# EAGLE library part IP5306 (library kxnStandard_IC_Function)
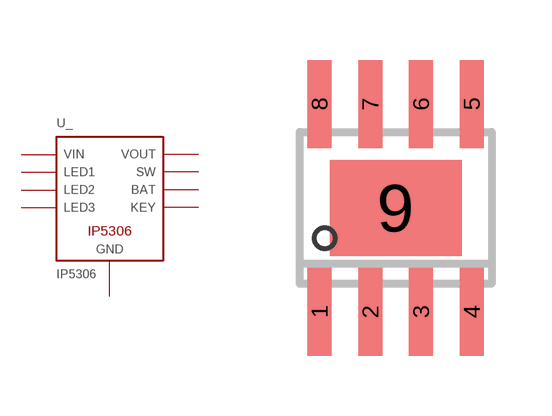
[diagram p13: symbol with the pads of ESOP8; footprint ESOP8]

Designator prefix U_

## IP5306_1 (CC_SHOP: CongCo; VALUE: IP5306)  [ESOP8]
1  P$1  pwr
2  P$2
3  P$3
4  P$4
5  P$5
6  P$6
7  P$7
8  P$8  pwr
9  P$9  pwr

## Footprint ESOP8 (pad centres in mm)
\eaglepcb_eduseri\Ngoc\document\PDF\power\charger\charger_INJOINIC-IP5306_ENG_C181692 D:\git\bitbucket\xuanngoc1992\EagleBit\eaglepcb_eduseri\Ngoc\document\PDF\power\charger\charger_INJOINIC-IP5306_ENG_C181692
smd 0.6 x 2.2: 1 -1.905,-2.6; 2 -0.635,-2.6; 3 0.635,-2.6; 4 1.905,-2.6; 5 1.905,2.6; 6 0.635,2.6; 7 -0.635,2.6; 8 -1.905,2.6
smd 3.3 x 2.4: 9 0,0